# Altium schematic symbol library SN74.SchLib: 83 symbols
Pins are listed as number, name and electrical type; pins without a type are passive.

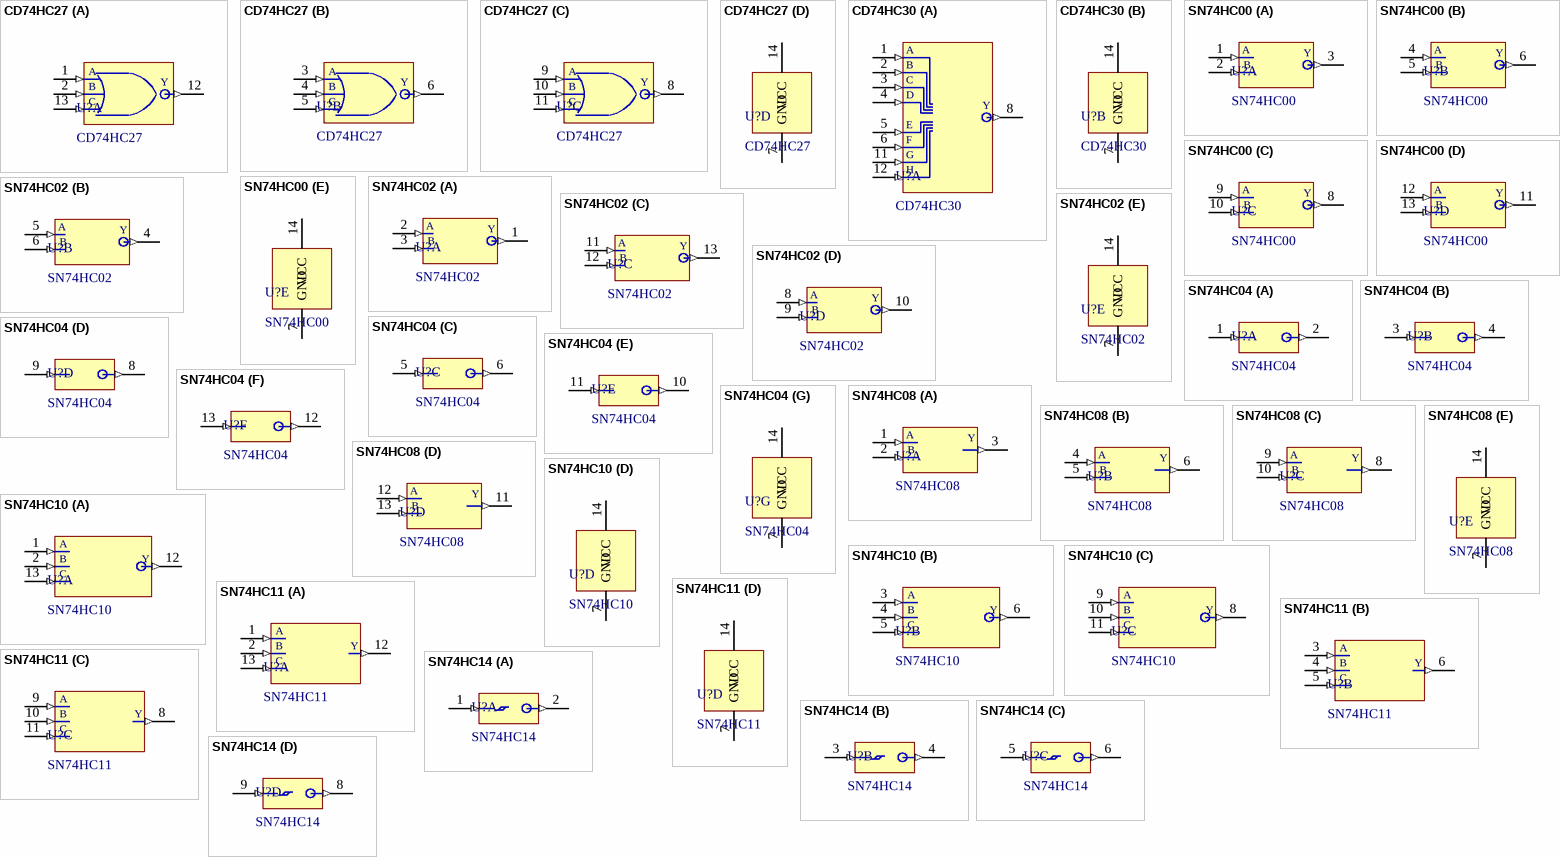
[diagram p0: symbols CD74HC27 to SN74HC14]

## CD74HC27
designator U?
Triple 3-Input NOR Gate
footprint CDIP14
footprint SOIC14
part A pins: 1 A (in), 2 B (in), 12 Y (out), 13 C (in)
part B pins: 3 A (in), 4 B (in), 5 C (in), 6 Y (out)
part C pins: 8 Y (out), 9 A (in), 10 B (in), 11 C (in)
part D pins: 7 GND (power), 14 VCC (power)

## CD74HC30
designator U?
8-Input NAND Gate
footprint CDIP14
footprint SOIC14
footprint TSSOP14
part A pins: 1 A (in), 2 B (in), 3 C (in), 4 D (in), 5 E (in), 6 F (in), 8 Y (out), 11 G (in), 12 H (in)
part B pins: 7 GND (power), 14 VCC (power)

## SN74HC00
designator U?
Quadruple 2-Input Positive-NAND Gates
footprint CDIP14
footprint SOIC14
footprint TSSOP14
part A pins: 1 A (in), 2 B (in), 3 Y (out)
part B pins: 4 A (in), 5 B (in), 6 Y (out)
part C pins: 8 Y (out), 9 A (in), 10 B (in)
part D pins: 11 Y (out), 12 A (in), 13 B (in)
part E pins: 7 GND (power), 14 VCC (power)

## SN74HC02
designator U?
Quadruple 2-Input Positive-NOR Gates
footprint CDIP14
footprint SOIC14
footprint TSSOP14
part A pins: 1 Y (out), 2 A (in), 3 B (in)
part B pins: 4 Y (out), 5 A (in), 6 B (in)
part C pins: 11 A (in), 12 B (in), 13 Y (out)
part D pins: 8 A (in), 9 B (in), 10 Y (out)
part E pins: 7 GND (power), 14 VCC (power)

## SN74HC04
designator U?
Hex Inverters
footprint CDIP14
footprint SOIC14
footprint TSSOP14
part A pins: 1 A (in), 2 Y (out)
part B pins: 3 A (in), 4 Y (out)
part C pins: 5 A (in), 6 Y (out)
part D pins: 8 Y (out), 9 A (in)
part E pins: 10 Y (out), 11 A (in)
part F pins: 12 Y (out), 13 A (in)
part G pins: 7 GND (power), 14 VCC (power)

## SN74HC08
designator U?
Quadruple 2-Input Positive-AND Gates
footprint CDIP14
footprint SOIC14
footprint TSSOP14
part A pins: 1 A (in), 2 B (in), 3 Y (out)
part B pins: 4 A (in), 5 B (in), 6 Y (out)
part C pins: 8 Y (out), 9 A (in), 10 B (in)
part D pins: 11 Y (out), 12 A (in), 13 B (in)
part E pins: 7 GND (power), 14 VCC (power)

## SN74HC10
designator U?
Triple 3-Input Positive-NAND Gates
footprint CDIP14
footprint SOIC14
footprint TSSOP14
part A pins: 1 A (in), 2 B (in), 12 Y (out), 13 C (in)
part B pins: 3 A (in), 4 B (in), 5 C (in), 6 Y (out)
part C pins: 8 Y (out), 9 A (in), 10 B (in), 11 C (in)
part D pins: 7 GND (power), 14 VCC (power)

## SN74HC11
designator U?
Triple 3-Input Positive-AND Gates
footprint CDIP14
footprint SOIC14
footprint TSSOP14
part A pins: 1 A (in), 2 B (in), 12 Y (out), 13 C (in)
part B pins: 3 A (in), 4 B (in), 5 C (in), 6 Y (out)
part C pins: 8 Y (out), 9 A (in), 10 B (in), 11 C (in)
part D pins: 7 GND (power), 14 VCC (power)

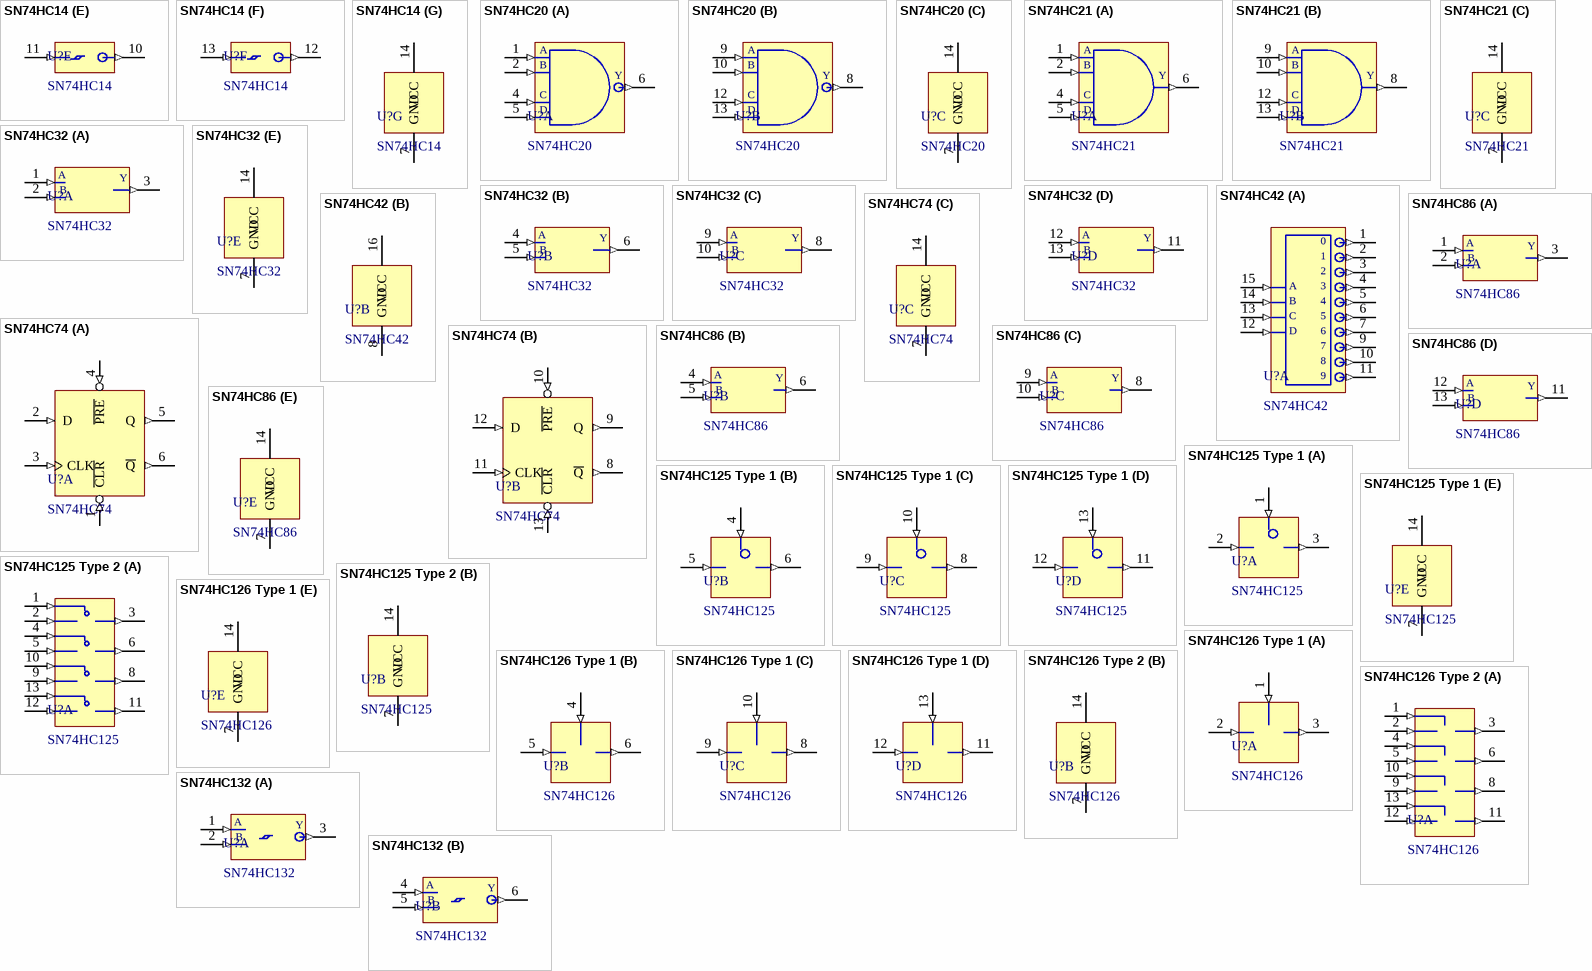
[diagram p1: symbols SN74HC14 to SN74HC132]

## SN74HC14
designator U?
Hex Schmitt-Trigger Inverters
footprint CDIP14
footprint SOIC14
footprint TSSOP14
part A pins: 1 A (in), 2 Y (out)
part B pins: 3 A (in), 4 Y (out)
part C pins: 5 A (in), 6 Y (out)
part D pins: 8 Y (out), 9 A (in)
part E pins: 10 Y (out), 11 A (in)
part F pins: 12 Y (out), 13 A (in)
part G pins: 7 GND (power), 14 VCC (power)

## SN74HC20
designator U?
Dual 4-Input Positive-NAND Gates
footprint CDIP14
footprint SOIC14
footprint TSSOP14
part A pins: 1 A (in), 2 A (in), 4 C (in), 5 D (in), 6 Y (out)
part B pins: 8 Y (out), 9 A (in), 10 A (in), 12 C (in), 13 D (in)
part C pins: 7 GND (power), 14 VCC (power)
part A text: B
part B text: B

## SN74HC21
designator U?
Dual 4-Input Positive-AND Gates
footprint CDIP14
footprint SOIC14
footprint TSSOP14
part A pins: 1 A (in), 2 A (in), 4 C (in), 5 D (in), 6 Y (out)
part B pins: 8 Y (out), 9 A (in), 10 A (in), 12 C (in), 13 D (in)
part C pins: 7 GND (power), 14 VCC (power)
part A text: B
part B text: B

## SN74HC32
designator U?
Quadruple 2-Input Positive-OR Gates
footprint CDIP14
footprint SOIC14
footprint TSSOP14
part A pins: 1 A (in), 2 B (in), 3 Y (out)
part B pins: 4 A (in), 5 B (in), 6 Y (out)
part C pins: 8 Y (out), 9 A (in), 10 B (in)
part D pins: 11 Y (out), 12 A (in), 13 B (in)
part E pins: 7 GND (power), 14 VCC (power)

## SN74HC42
designator U?
4-Lines to 10-Lines Decoder
footprint PDIP16
footprint SOIC16
part A pins: 1 0 (out), 2 1 (out), 3 2 (out), 4 3 (out), 5 4 (out), 6 5 (out), 7 6 (out), 9 7 (out), 10 8 (out), 11 9 (out), 12 D (in), 13 C (in), 14 B (in), 15 A (in)
part B pins: 8 GND (power), 16 VCC (power)

## SN74HC74
designator U?
Dual D-Type Positive-Edge-Triggered Flip-Flops With Clear and Preset
footprint CDIP14
footprint SOIC14
footprint TSSOP14
part A pins: 1 ~{CLR} (in), 2 D (in), 3 CLK (in), 4 ~{PRE} (in), 5 Q (out), 6 ~{Q} (out)
part B pins: 8 ~{Q} (out), 9 Q (out), 10 ~{PRE} (in), 11 CLK (in), 12 D (in), 13 ~{CLR} (in)
part C pins: 7 GND (power), 14 VCC (power)

## SN74HC86
designator U?
Quadruple 2-Input Exclusive-OR Gates
footprint CDIP14
footprint SOIC14
footprint TSSOP14
part A pins: 1 A (in), 2 B (in), 3 Y (out)
part B pins: 4 A (in), 5 B (in), 6 Y (out)
part C pins: 8 Y (out), 9 A (in), 10 B (in)
part D pins: 11 Y (out), 12 A (in), 13 B (in)
part E pins: 7 GND (power), 14 VCC (power)

## SN74HC125 Type 1
designator U?, comment SN74HC125
Quadruple Bus Buffer Gates With 3-State Outputs
footprint CDIP14
footprint SOIC14
footprint TSSOP14
part A pins: 1 ~{OE} (in), 2 A (in), 3 Y (out)
part B pins: 4 ~{OE} (in), 5 A (in), 6 Y (out)
part C pins: 8 Y (out), 9 A (in), 10 ~{OE} (in)
part D pins: 11 Y (out), 12 A (in), 13 ~{OE} (in)
part E pins: 7 GND (power), 14 VCC (power)

## SN74HC125 Type 2
designator U?, comment SN74HC125
Quadruple Bus Buffer Gates With 3-State Outputs
footprint CDIP14
footprint SOIC14
footprint TSSOP14
part A pins: 1 ~{OE} (in), 2 A (in), 3 Y (out), 4 ~{OE} (in), 5 A (in), 6 Y (out), 8 Y (out), 9 A (in), 10 ~{OE} (in), 11 Y (out), 12 A (in), 13 ~{OE} (in)
part B pins: 7 GND (power), 14 VCC (power)

## SN74HC126 Type 1
designator U?, comment SN74HC126
Quadruple Bus Buffer Gates With 3-State Outputs
footprint CDIP14
footprint SOIC14
footprint TSSOP14
part A pins: 1 ~{OE} (in), 2 A (in), 3 Y (out)
part B pins: 4 ~{OE} (in), 5 A (in), 6 Y (out)
part C pins: 8 Y (out), 9 A (in), 10 ~{OE} (in)
part D pins: 11 Y (out), 12 A (in), 13 ~{OE} (in)
part E pins: 7 GND (power), 14 VCC (power)

## SN74HC126 Type 2
designator U?, comment SN74HC126
Quadruple Bus Buffer Gates With 3-State Outputs
footprint CDIP14
footprint SOIC14
footprint TSSOP14
part A pins: 1 ~{OE} (in), 2 A (in), 3 Y (out), 4 ~{OE} (in), 5 A (in), 6 Y (out), 8 Y (out), 9 A (in), 10 ~{OE} (in), 11 Y (out), 12 A (in), 13 ~{OE} (in)
part B pins: 7 GND (power), 14 VCC (power)

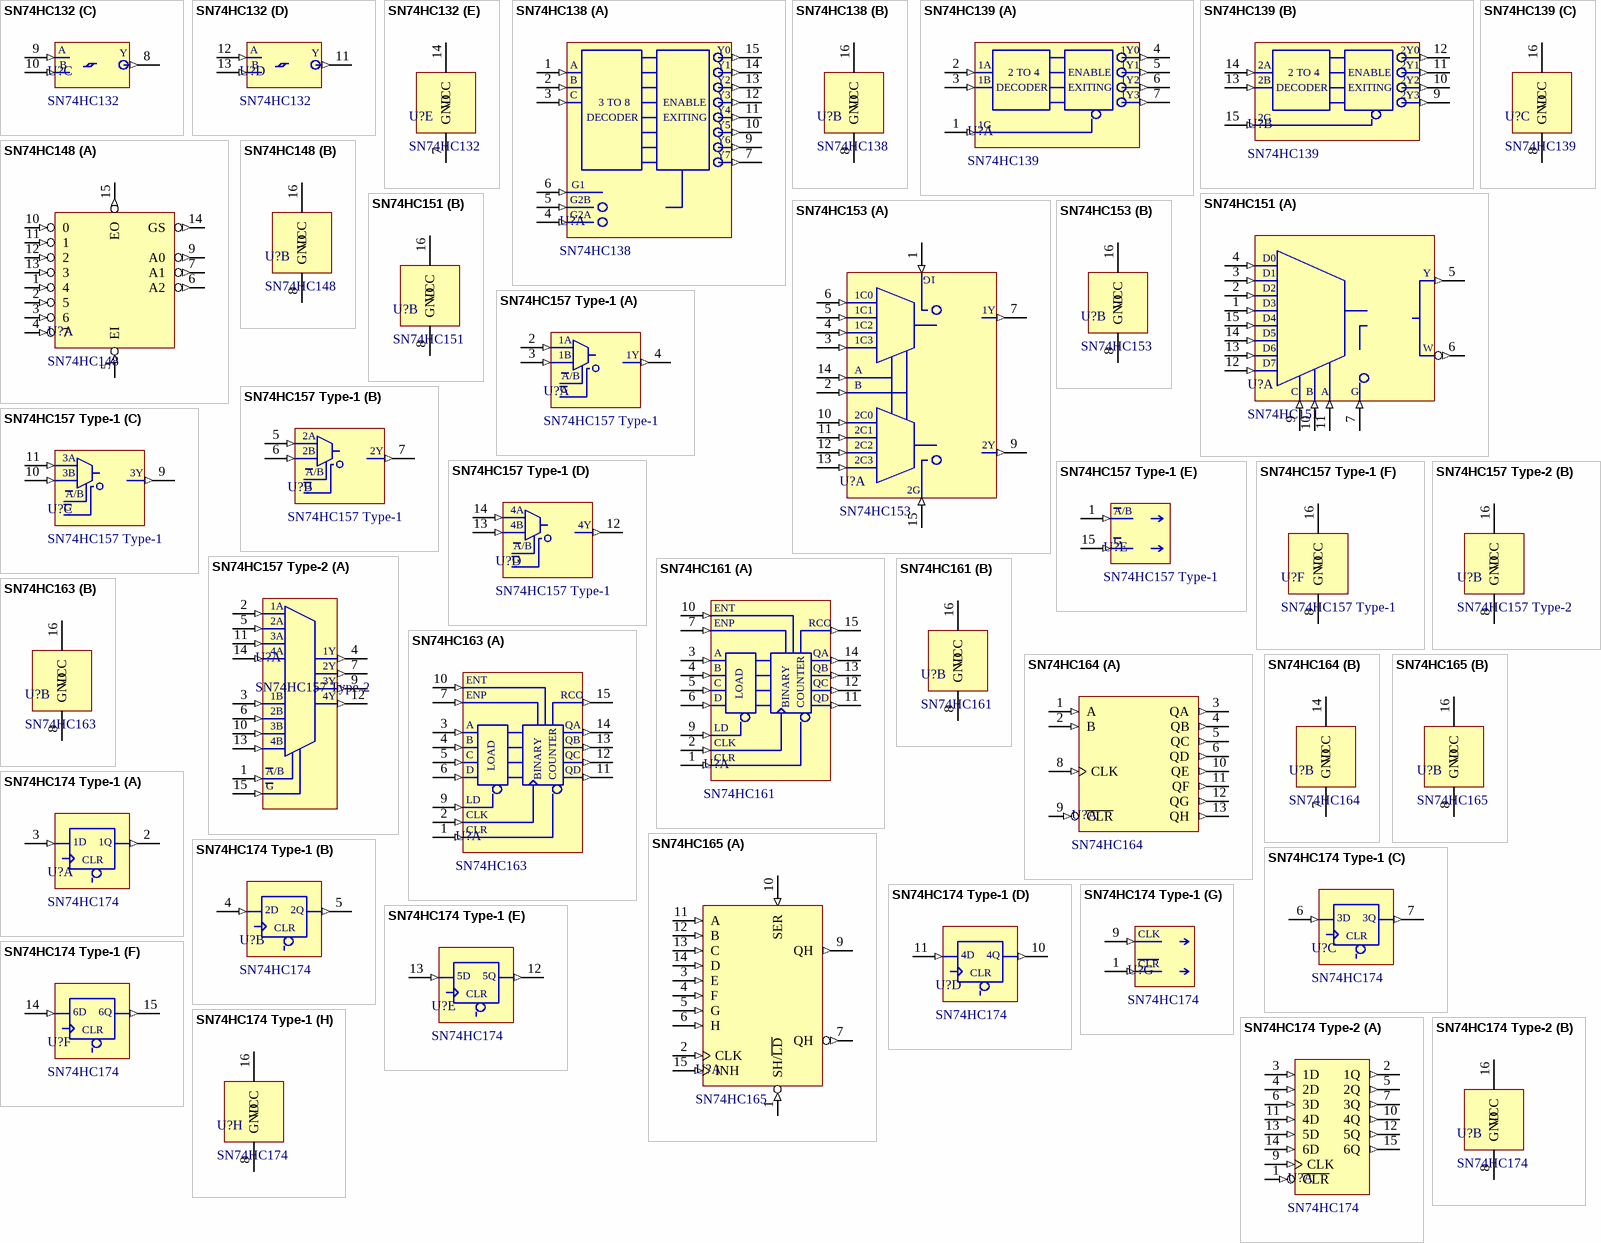
[diagram p2: symbols SN74HC132 to SN74HC174 Type-2]

## SN74HC132
designator U?
Quadruple Positive-NAND Gates With Schmitt-Trigger Inputs
footprint CDIP14
footprint SOIC14
footprint TSSOP14
part A pins: 1 A (in), 2 B (in), 3 Y (out)
part B pins: 4 A (in), 5 B (in), 6 Y (out)
part C pins: 8 Y (out), 9 A (in), 10 B (in)
part D pins: 11 Y (out), 12 A (in), 13 B (in)
part E pins: 7 GND (power), 14 VCC (power)

## SN74HC138
designator U?
3-Line To 8-Line Decoders/Demultiplexers
footprint PDIP16
footprint SOIC16
footprint TSSOP16
part A pins: 1 A (in), 2 B (in), 3 C (in), 4 G2A (in), 5 G2B (in), 6 G1 (in), 7 Y7 (out), 9 Y6 (out), 10 Y5 (out), 11 Y4 (out), 12 Y3 (out), 13 Y2 (out), 14 Y1 (out), 15 Y0 (out)
part B pins: 8 GND (power), 16 VCC (power)
part A text: 3 TO 8; ENABLE; DECODER; EXITING

## SN74HC139
designator U?
Dual 2-Line to 4-Line Decoders/Demultiplexers
footprint PDIP16
footprint SOIC16
footprint TSSOP16
part A pins: 1 1G (in), 2 1A (in), 3 1B (in), 4 1Y0 (out), 5 1Y1 (out), 6 1Y2 (out), 7 1Y3 (out)
part B pins: 9 2Y3 (out), 10 2Y2 (out), 11 2Y1 (out), 12 2Y0 (out), 13 2B (in), 14 2A (in), 15 2G (in)
part C pins: 8 GND (power), 16 VCC (power)
part A text: 2 TO 4; ENABLE; DECODER; EXITING
part B text: 2 TO 4; ENABLE; DECODER; EXITING

## SN74HC148
designator U?
8-Line To 3-Line Priority Encoders
footprint PDIP16
footprint SOIC16
part A pins: 1 4 (in), 2 5 (in), 3 6 (in), 4 7 (in), 5 EI (in), 6 A2 (out), 7 A1 (out), 9 A0 (out), 10 0 (in), 11 1 (in), 12 2 (in), 13 3 (in), 14 GS (out), 15 EO (out)
part B pins: 8 GND (power), 16 VCC (power)

## SN74HC151
designator U?
8-Line To 1-Line Data Selectors/Mutiplexers
footprint PDIP16
footprint SOIC16
footprint TSSOP16
part A pins: 1 D3 (in), 2 D2 (in), 3 D1 (in), 4 D0 (in), 5 Y (out), 6 W (out), 7 G (in), 9 C (in), 10 B (in), 11 A (in), 12 D7 (in), 13 D6 (in), 14 D5 (in), 15 D4 (in)
part B pins: 8 GND (power), 16 VCC (power)

## SN74HC153
designator U?
Dual 4-Line To 1-Line Data Selectors/Mutiplexers
footprint PDIP16
footprint SOIC16
footprint TSSOP16
part A pins: 1 1G (in), 2 B (in), 3 1C3 (in), 4 1C2 (in), 5 1C1 (in), 6 1C0 (in), 7 1Y (out), 9 2Y (out), 10 2C0 (in), 11 2C1 (in), 12 2C2 (in), 13 2C3 (in), 14 A (in), 15 2G (in)
part B pins: 8 GND (power), 16 VCC (power)

## SN74HC157 Type-1
designator U?
Quadruple 2-Line To 1-Line Data Selectors/Mutiplexers
footprint PDIP16
footprint SOIC16
footprint TSSOP16
part A pins: 2 1A (in), 3 1B (in), 4 1Y (out)
part B pins: 5 2A (in), 6 2B (in), 7 2Y (out)
part C pins: 9 3Y (out), 10 3B (in), 11 3A (in)
part D pins: 12 4Y (out), 13 4B (in), 14 4A (in)
part E pins: 1 A/B (in), 15 G (in)
part F pins: 8 GND (power), 16 VCC (power)

## SN74HC157 Type-2
designator U?
Quadruple 2-Line To 1-Line Data Selectors/Mutiplexers
footprint PDIP16
footprint SOIC16
footprint TSSOP16
part A pins: 1 A/B (in), 2 1A (in), 3 1B (in), 4 1Y (out), 5 2A (in), 6 2B (in), 7 2Y (out), 9 3Y (out), 10 3B (in), 11 3A (in), 12 4Y (out), 13 4B (in), 14 4A (in), 15 G (in)
part B pins: 8 GND (power), 16 VCC (power)

## SN74HC161
designator U?
4-Bit Synchronous Binary Counters
footprint PDIP16
footprint SOIC16
footprint TSSOP16
part A pins: 1 CLR (in), 2 CLK (in), 3 A (in), 4 B (in), 5 C (in), 6 D (in), 7 ENP (in), 9 LOAD (in), 10 ENT (in), 11 QD (out), 12 QC (out), 13 QB (out), 14 QA (out), 15 RCO (out)
part B pins: 8 GND (power), 16 VCC (power)
part A text: BINARY; COUNTER; LD

## SN74HC163
designator U?
4-Bit Synchronous Binary Counters
footprint PDIP16
footprint SOIC16
footprint TSSOP16
part A pins: 1 CLR (in), 2 CLK (in), 3 A (in), 4 B (in), 5 C (in), 6 D (in), 7 ENP (in), 9 LOAD (in), 10 ENT (in), 11 QD (out), 12 QC (out), 13 QB (out), 14 QA (out), 15 RCO (out)
part B pins: 8 GND (power), 16 VCC (power)
part A text: BINARY; COUNTER; LD

## SN74HC164
designator U?
8-Bit Parallel-Out Serial Shift Registers
footprint CDIP14
footprint SOIC14
footprint TSSOP14
part A pins: 1 A (in), 2 B (in), 3 QA (out), 4 QB (out), 5 QC (out), 6 QD (out), 8 CLK (in), 9 ~{CLR} (in), 10 QE (out), 11 QF (out), 12 QG (out), 13 QH (out)
part B pins: 7 GND (power), 14 VCC (power)

## SN74HC165
designator U?
8-Bit Parallel-Load Shift Registers
footprint PDIP16
footprint SOIC16
footprint TSSOP16
part A pins: 1 SH/~{LD} (in), 2 CLK (in), 3 E (in), 4 F (in), 5 G (in), 6 H (in), 7 QH (out), 9 QH (out), 10 SER (in), 11 A (in), 12 B (in), 13 C (in), 14 D (in), 15 INH (in)
part B pins: 8 GND (power), 16 VCC (power)

## SN74HC174 Type-1
designator U?, comment SN74HC174
Hex D-Type Flip-Flop With Clear
footprint PDIP16
footprint SOIC16
footprint TSSOP16
part A pins: 2 1Q (out), 3 1D (in)
part B pins: 4 2D (in), 5 2Q (out)
part C pins: 6 3D (in), 7 3Q (out)
part D pins: 10 4Q (out), 11 4D (in)
part E pins: 12 5Q (out), 13 5D (in)
part F pins: 14 6D (in), 15 6Q (out)
part G pins: 1 ~{CLR} (in), 9 CLK (in)
part H pins: 8 GND (power), 16 VCC (power)
part A text: CLR
part B text: CLR
part C text: CLR
part D text: CLR
part E text: CLR
part F text: CLR
part G text: CLR

## SN74HC174 Type-2
designator U?, comment SN74HC174
Hex D-Type Flip-Flop With Clear
footprint PDIP16
footprint SOIC16
footprint TSSOP16
part A pins: 1 ~{CLR} (in), 2 1Q (out), 3 1D (in), 4 2D (in), 5 2Q (out), 6 3D (in), 7 3Q (out), 9 CLK (in), 10 4Q (out), 11 4D (in), 12 5Q (out), 13 5D (in), 14 6D (in), 15 6Q (out)
part B pins: 8 GND (power), 16 VCC (power)

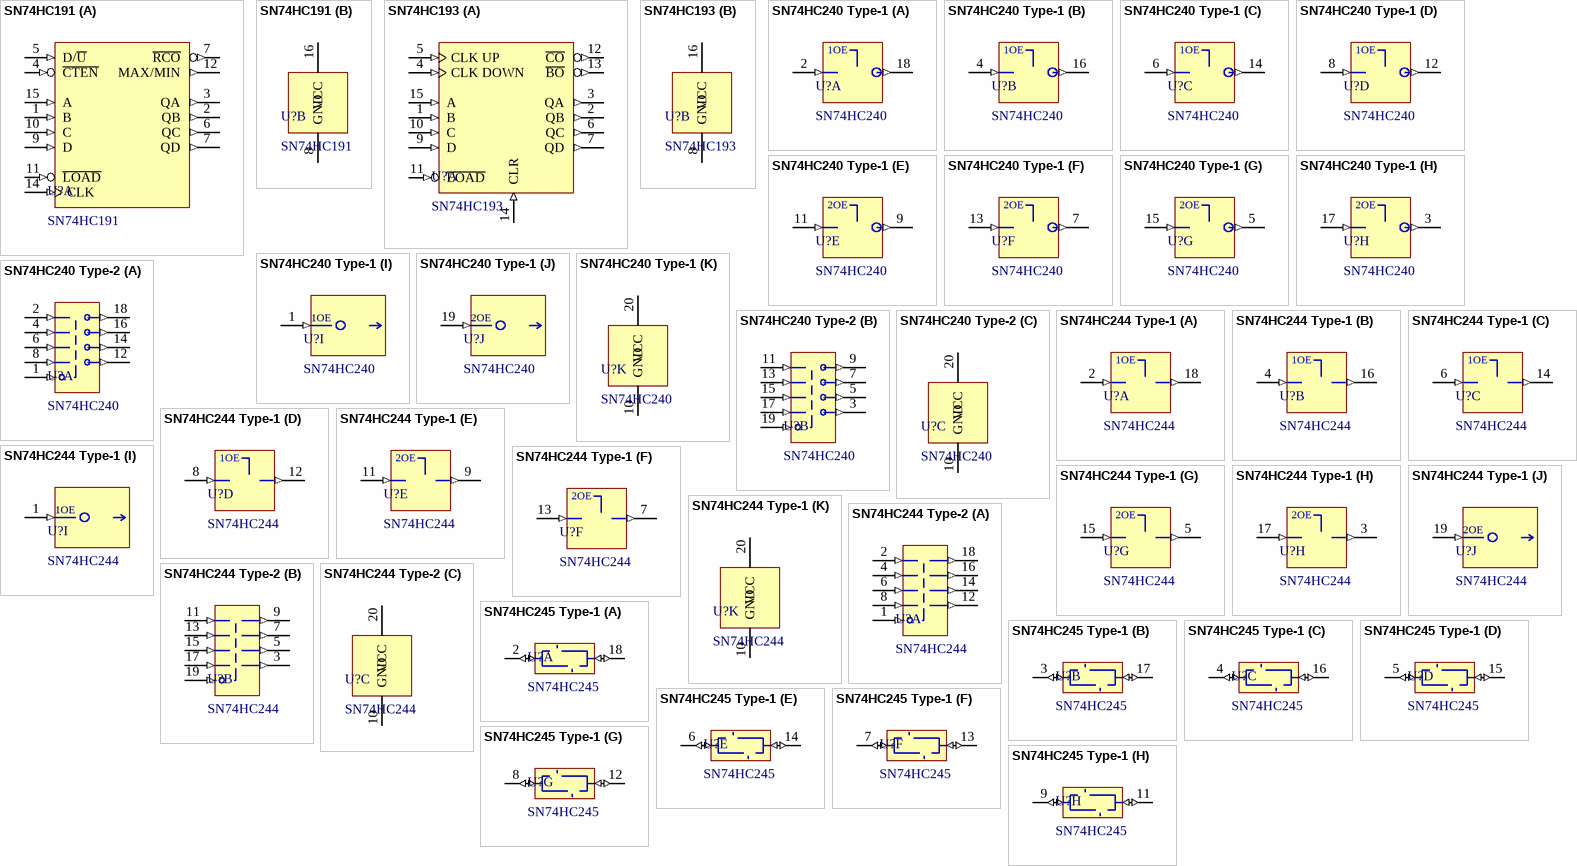
[diagram p3: symbols SN74HC191 to SN74HC245 Type-1]

## SN74HC191
designator U?
4-Bit Synchronous Up/Down Binary Counters
footprint PDIP16
footprint SOIC16
part A pins: 1 B (in), 2 QB (out), 3 QA (out), 4 ~{CTEN} (in), 5 D/~{U} (in), 6 QC (out), 7 ~{RCO} (out), 7 QD (out), 9 D (in), 10 C (in), 11 ~{LOAD} (in), 12 MAX/MIN (out), 14 CLK (in), 15 A (in)
part B pins: 8 GND (power), 16 VCC (power)

## SN74HC193
designator U?
4-Bit Synchronous Up/Down Counters - Dual Clock with Clear
footprint PDIP16
footprint SOIC16
footprint TSSOP16
part A pins: 1 B (in), 2 QB (out), 3 QA (out), 4 CLK DOWN (in), 5 CLK UP (in), 6 QC (out), 7 QD (out), 9 D (in), 10 C (in), 11 ~{LOAD} (in), 12 ~{CO} (out), 13 ~{BO} (out), 14 CLR (in), 15 A (in)
part B pins: 8 GND (power), 16 VCC (power)

## SN74HC240 Type-1
designator U?, comment SN74HC240
Octal Buffers and Line Inverter Drivers With 3-State Outputs
footprint PDIP20
footprint SOIC20
part A pins: 2 1A1 (in), 18 1Y1 (out)
part B pins: 4 1A2 (in), 16 1Y2 (out)
part C pins: 6 1A3 (in), 14 1Y3 (out)
part D pins: 8 1A4 (in), 12 1Y4 (out)
part E pins: 9 2Y1 (out), 11 2A1 (in)
part F pins: 7 2Y2 (out), 13 2A2 (in)
part G pins: 5 2Y3 (out), 15 2A3 (in)
part H pins: 3 2Y4 (out), 17 2A4 (in)
part I pins: 1 OE1 (in)
part J pins: 19 OE1 (in)
part K pins: 10 GND (power), 20 VCC (power)
part A text: 1OE
part B text: 1OE
part C text: 1OE
part D text: 1OE
part E text: 2OE
part F text: 2OE
part G text: 2OE
part H text: 2OE
part I text: 1OE
part J text: 2OE

## SN74HC240 Type-2
designator U?, comment SN74HC240
Octal Buffers and Line Inverter Drivers With 3-State Outputs
footprint PDIP20
footprint SOIC20
part A pins: 1 OE1 (in), 2 1A1 (in), 4 1A2 (in), 6 1A3 (in), 8 1A4 (in), 12 1Y4 (out), 14 1Y3 (out), 16 1Y2 (out), 18 1Y1 (out)
part B pins: 3 2Y4 (out), 5 2Y3 (out), 7 2Y2 (out), 9 2Y1 (out), 11 2A1 (in), 13 2A2 (in), 15 2A3 (in), 17 2A4 (in), 19 OE1 (in)
part C pins: 10 GND (power), 20 VCC (power)

## SN74HC244 Type-1
designator U?, comment SN74HC244
Octal Buffers and Line Drivers With 3-State Outputs
footprint PDIP20
footprint SOIC20
part A pins: 2 1A1 (in), 18 1Y1 (out)
part B pins: 4 1A2 (in), 16 1Y2 (out)
part C pins: 6 1A3 (in), 14 1Y3 (out)
part D pins: 8 1A4 (in), 12 1Y4 (out)
part E pins: 9 2Y1 (out), 11 2A1 (in)
part F pins: 7 2Y2 (out), 13 2A2 (in)
part G pins: 5 2Y3 (out), 15 2A3 (in)
part H pins: 3 2Y4 (out), 17 2A4 (in)
part I pins: 1 1~{OE} (in)
part J pins: 19 2~{OE} (in)
part K pins: 10 GND (power), 20 VCC (power)
part A text: 1OE
part B text: 1OE
part C text: 1OE
part D text: 1OE
part E text: 2OE
part F text: 2OE
part G text: 2OE
part H text: 2OE
part I text: 1OE
part J text: 2OE

## SN74HC244 Type-2
designator U?, comment SN74HC244
Octal Buffers and Line Drivers With 3-State Outputs
footprint PDIP20
footprint SOIC20
part A pins: 1 1~{OE} (in), 2 1A1 (in), 4 1A2 (in), 6 1A3 (in), 8 1A4 (in), 12 1Y4 (out), 14 1Y3 (out), 16 1Y2 (out), 18 1Y1 (out)
part B pins: 3 2Y4 (out), 5 2Y3 (out), 7 2Y2 (out), 9 2Y1 (out), 11 2A1 (in), 13 2A2 (in), 15 2A3 (in), 17 2A4 (in), 19 2~{OE} (in)
part C pins: 10 GND (power), 20 VCC (power)

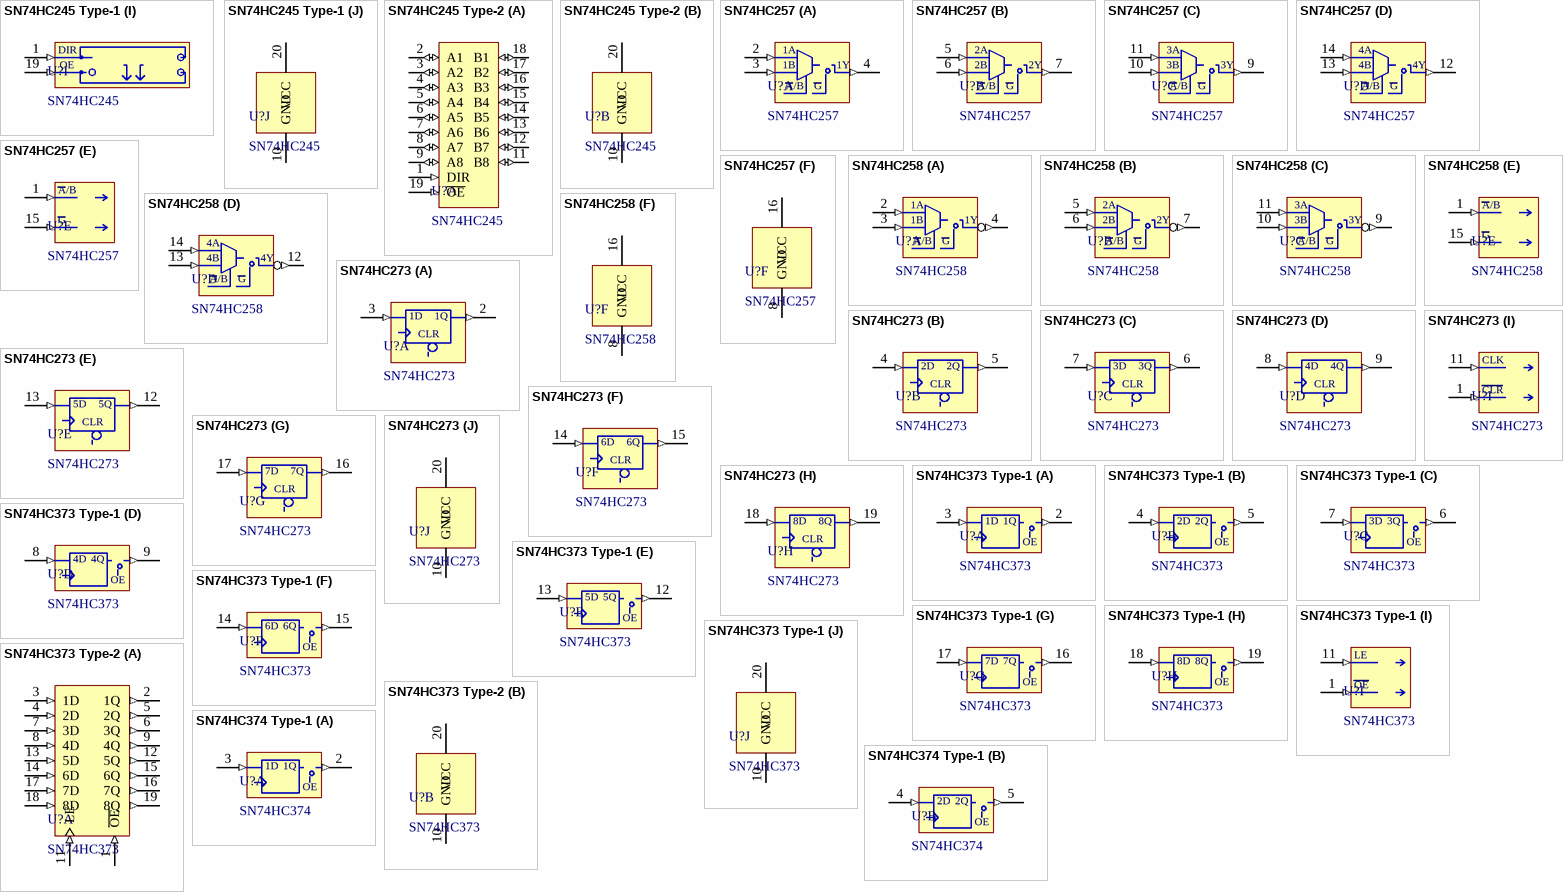
[diagram p4: symbols SN74HC245 Type-1 to SN74HC374 Type-1]

## SN74HC245 Type-1
designator U?, comment SN74HC245
Octal Bus Transceivers with 3-State Outputs
footprint PDIP20
footprint SOIC20
part A pins: 2 A1 (io), 18 B1 (io)
part B pins: 3 A2 (io), 17 B2 (io)
part C pins: 4 A3 (io), 16 B3 (io)
part D pins: 5 A4 (io), 15 B4 (io)
part E pins: 6 A5 (io), 14 B5 (io)
part F pins: 7 A6 (io), 13 B6 (io)
part G pins: 8 A7 (io), 12 B7 (io)
part H pins: 9 A8 (io), 11 B8 (io)
part I pins: 1 DIR (in), 19 ~{OE} (in)
part J pins: 10 GND (power), 20 VCC (power)
part I text: OE

## SN74HC245 Type-2
designator U?, comment SN74HC245
Octal Bus Transceivers with 3-State Outputs
footprint PDIP20
footprint SOIC20
part A pins: 1 DIR (in), 2 A1 (io), 3 A2 (io), 4 A3 (io), 5 A4 (io), 6 A5 (io), 7 A6 (io), 8 A7 (io), 9 A8 (io), 11 B8 (io), 12 B7 (io), 13 B6 (io), 14 B5 (io), 15 B4 (io), 16 B3 (io), 17 B2 (io), 18 B1 (io), 19 ~{OE} (in)
part B pins: 10 GND (power), 20 VCC (power)

## SN74HC257
designator U?
Quadruple 2-Line To 1-Line Data Selectors/Mutiplexers with 3-State Outputs
footprint PDIP16
footprint SOIC16
footprint TSSOP16
part A pins: 2 1A (in), 3 1B (in), 4 1Y (out)
part B pins: 5 2A (in), 6 2B (in), 7 2Y (out)
part C pins: 9 3Y (out), 10 3B (in), 11 3A (in)
part D pins: 12 4Y (out), 13 4B (in), 14 4A (in)
part E pins: 1 ~{A}/B (in), 15 ~{G} (in)
part F pins: 8 GND (power), 16 VCC (power)
part A text: A/B; G
part B text: A/B; G
part C text: A/B; G
part D text: A/B; G
part E text: A/B; G

## SN74HC258
designator U?
Quadruple 2-Line To 1-Line Data Selectors/Mutiplexers with 3-State Outputs
footprint PDIP16
footprint SOIC16
part A pins: 2 1A (in), 3 1B (in), 4 1Y (out)
part B pins: 5 2A (in), 6 2B (in), 7 2Y (out)
part C pins: 9 3Y (out), 10 3B (in), 11 3A (in)
part D pins: 12 4Y (out), 13 4B (in), 14 4A (in)
part E pins: 1 ~{A}/B (in), 15 ~{G} (in)
part F pins: 8 GND (power), 16 VCC (power)
part A text: A/B; G
part B text: A/B; G
part C text: A/B; G
part D text: A/B; G
part E text: A/B; G

## SN74HC273
designator U?
Octal D-Type Flip-Flops with Clear
footprint PDIP20
footprint SOIC20
part A pins: 2 1Q (out), 3 1D (in)
part B pins: 4 2D (in), 5 2Q (out)
part C pins: 6 3Q (out), 7 3D (in)
part D pins: 8 4D (in), 9 4Q (out)
part E pins: 12 5Q (out), 13 5D (in)
part F pins: 14 6D (in), 15 6Q (out)
part G pins: 16 7Q (out), 17 7D (in)
part H pins: 18 8D (in), 19 8Q (out)
part I pins: 1 ~{CLR} (in), 11 CLK (in)
part J pins: 10 GND (power), 20 VCC (power)
part A text: CLR
part B text: CLR
part C text: CLR
part D text: CLR
part E text: CLR
part F text: CLR
part G text: CLR
part H text: CLR
part I text: CLR

## SN74HC373 Type-1
designator U?, comment SN74HC373
Octal Transparent D-Type Latches with 3-State Outputs
footprint PDIP20
footprint SOIC20
part A pins: 2 1Q (out), 3 1D (in)
part B pins: 4 2D (in), 5 2Q (out)
part C pins: 6 3Q (out), 7 3D (in)
part D pins: 8 4D (in), 9 4Q (out)
part E pins: 12 5Q (out), 13 5D (in)
part F pins: 14 6D (in), 15 6Q (out)
part G pins: 16 7Q (out), 17 7D (in)
part H pins: 18 8D (in), 19 8Q (out)
part I pins: 1 ~{OE} (in), 11 LE (in)
part J pins: 10 GND (power), 20 VCC (power)
part A text: OE
part B text: OE
part C text: OE
part D text: OE
part E text: OE
part F text: OE
part G text: OE
part H text: OE
part I text: OE

## SN74HC373 Type-2
designator U?, comment SN74HC373
Octal Transparent D-Type Latches with 3-State Outputs
footprint PDIP20
footprint SOIC20
part A pins: 1 ~{OE} (in), 2 1Q (out), 3 1D (in), 4 2D (in), 5 2Q (out), 6 3Q (out), 7 3D (in), 8 4D (in), 9 4Q (out), 11 LE (in), 12 5Q (out), 13 5D (in), 14 6D (in), 15 6Q (out), 16 7Q (out), 17 7D (in), 18 8D (in), 19 8Q (out)
part B pins: 10 GND (power), 20 VCC (power)

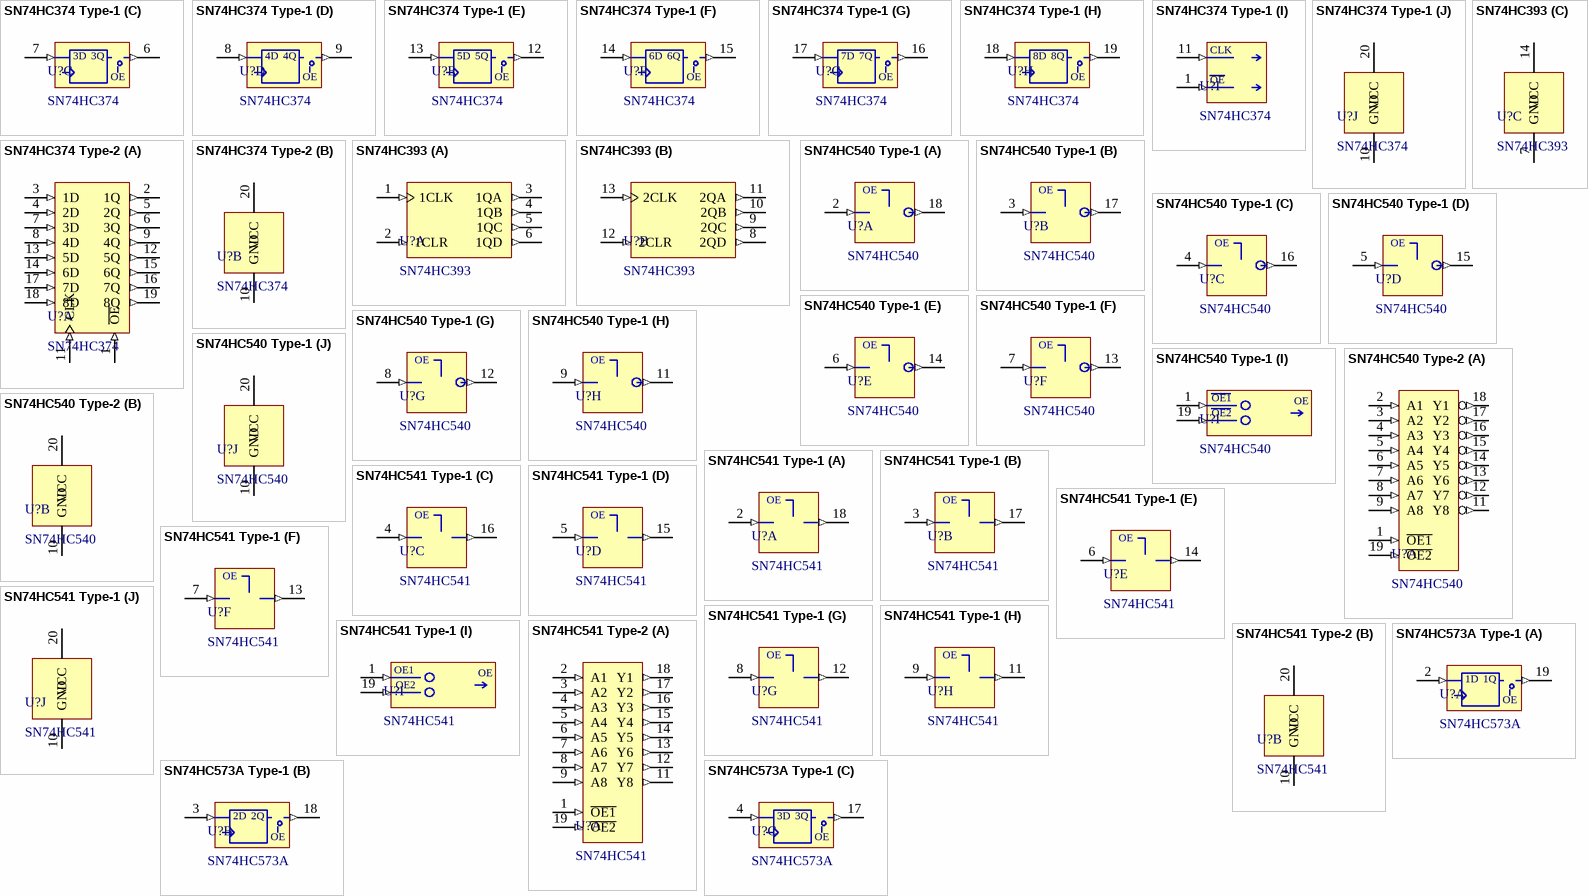
[diagram p5: symbols SN74HC374 Type-1 to SN74HC573A Type-1]

## SN74HC374 Type-1
designator U?, comment SN74HC374
Octal Edge-Triggered D-Type Flip-Flops With 3-State Outputs
footprint PDIP20
footprint SOIC20
part A pins: 2 1Q (out), 3 1D (in)
part B pins: 4 2D (in), 5 2Q (out)
part C pins: 6 3Q (out), 7 3D (in)
part D pins: 8 4D (in), 9 4Q (out)
part E pins: 12 5Q (out), 13 5D (in)
part F pins: 14 6D (in), 15 6Q (out)
part G pins: 16 7Q (out), 17 7D (in)
part H pins: 18 8D (in), 19 8Q (out)
part I pins: 1 ~{OE} (in), 11 CLK (in)
part J pins: 10 GND (power), 20 VCC (power)
part A text: OE
part B text: OE
part C text: OE
part D text: OE
part E text: OE
part F text: OE
part G text: OE
part H text: OE
part I text: OE

## SN74HC374 Type-2
designator U?, comment SN74HC374
Octal Edge-Triggered D-Type Flip-Flops With 3-State Outputs
footprint PDIP20
footprint SOIC20
part A pins: 1 ~{OE} (in), 2 1Q (out), 3 1D (in), 4 2D (in), 5 2Q (out), 6 3Q (out), 7 3D (in), 8 4D (in), 9 4Q (out), 11 CLK (in), 12 5Q (out), 13 5D (in), 14 6D (in), 15 6Q (out), 16 7Q (out), 17 7D (in), 18 8D (in), 19 8Q (out)
part B pins: 10 GND (power), 20 VCC (power)

## SN74HC393
designator U?
Dual 4-Bit Binary Counters
footprint CDIP14
footprint SOIC14
footprint TSSOP14
part A pins: 1 1CLK (in), 2 1CLR (in), 3 1QA (out), 4 1QB (out), 5 1QC (out), 6 1QD (out)
part B pins: 8 2QD (out), 9 2QC (out), 10 2QB (out), 11 2QA (out), 12 2CLR (in), 13 2CLK (in)
part C pins: 7 GND (power), 14 VCC (power)

## SN74HC540 Type-1
designator U?, comment SN74HC540
Octal Buffers and Line Drivers With 3-State Outputs
footprint PDIP20
footprint SOIC20
part A pins: 2 A1 (in), 18 Y1 (out)
part B pins: 3 A2 (in), 17 Y2 (out)
part C pins: 4 A3 (in), 16 Y3 (out)
part D pins: 5 A4 (in), 15 Y4 (out)
part E pins: 6 A5 (in), 14 Y5 (out)
part F pins: 7 A6 (in), 13 Y6 (out)
part G pins: 8 A7 (in), 12 Y7 (out)
part H pins: 9 A8 (in), 11 Y8 (out)
part I pins: 1 OE1 (in), 19 OE2 (in)
part J pins: 10 GND (power), 20 VCC (power)
part A text: OE
part B text: OE
part C text: OE
part D text: OE
part E text: OE
part F text: OE
part G text: OE
part H text: OE
part I text: OE

## SN74HC540 Type-2
designator U?, comment SN74HC540
Octal Buffers and Line Drivers With 3-State Outputs
footprint PDIP20
footprint SOIC20
part A pins: 1 ~{OE1} (in), 2 A1 (in), 3 A2 (in), 4 A3 (in), 5 A4 (in), 6 A5 (in), 7 A6 (in), 8 A7 (in), 9 A8 (in), 11 Y8 (out), 12 Y7 (out), 13 Y6 (out), 14 Y5 (out), 15 Y4 (out), 16 Y3 (out), 17 Y2 (out), 18 Y1 (out), 19 ~{OE2} (in)
part B pins: 10 GND (power), 20 VCC (power)

## SN74HC541 Type-1
designator U?, comment SN74HC541
Octal Buffers and Line Drivers With 3-State Outputs
footprint PDIP20
footprint SOIC20
part A pins: 2 A1 (in), 18 Y1 (out)
part B pins: 3 A2 (in), 17 Y2 (out)
part C pins: 4 A3 (in), 16 Y3 (out)
part D pins: 5 A4 (in), 15 Y4 (out)
part E pins: 6 A5 (in), 14 Y5 (out)
part F pins: 7 A6 (in), 13 Y6 (out)
part G pins: 8 A7 (in), 12 Y7 (out)
part H pins: 9 A8 (in), 11 Y8 (out)
part I pins: 1 OE1 (in), 19 OE2 (in)
part J pins: 10 GND (power), 20 VCC (power)
part A text: OE
part B text: OE
part C text: OE
part D text: OE
part E text: OE
part F text: OE
part G text: OE
part H text: OE
part I text: OE

## SN74HC541 Type-2
designator U?, comment SN74HC541
Octal Buffers and Line Drivers With 3-State Outputs
footprint PDIP20
footprint SOIC20
part A pins: 1 ~{OE1} (in), 2 A1 (in), 3 A2 (in), 4 A3 (in), 5 A4 (in), 6 A5 (in), 7 A6 (in), 8 A7 (in), 9 A8 (in), 11 Y8 (out), 12 Y7 (out), 13 Y6 (out), 14 Y5 (out), 15 Y4 (out), 16 Y3 (out), 17 Y2 (out), 18 Y1 (out), 19 ~{OE2} (in)
part B pins: 10 GND (power), 20 VCC (power)

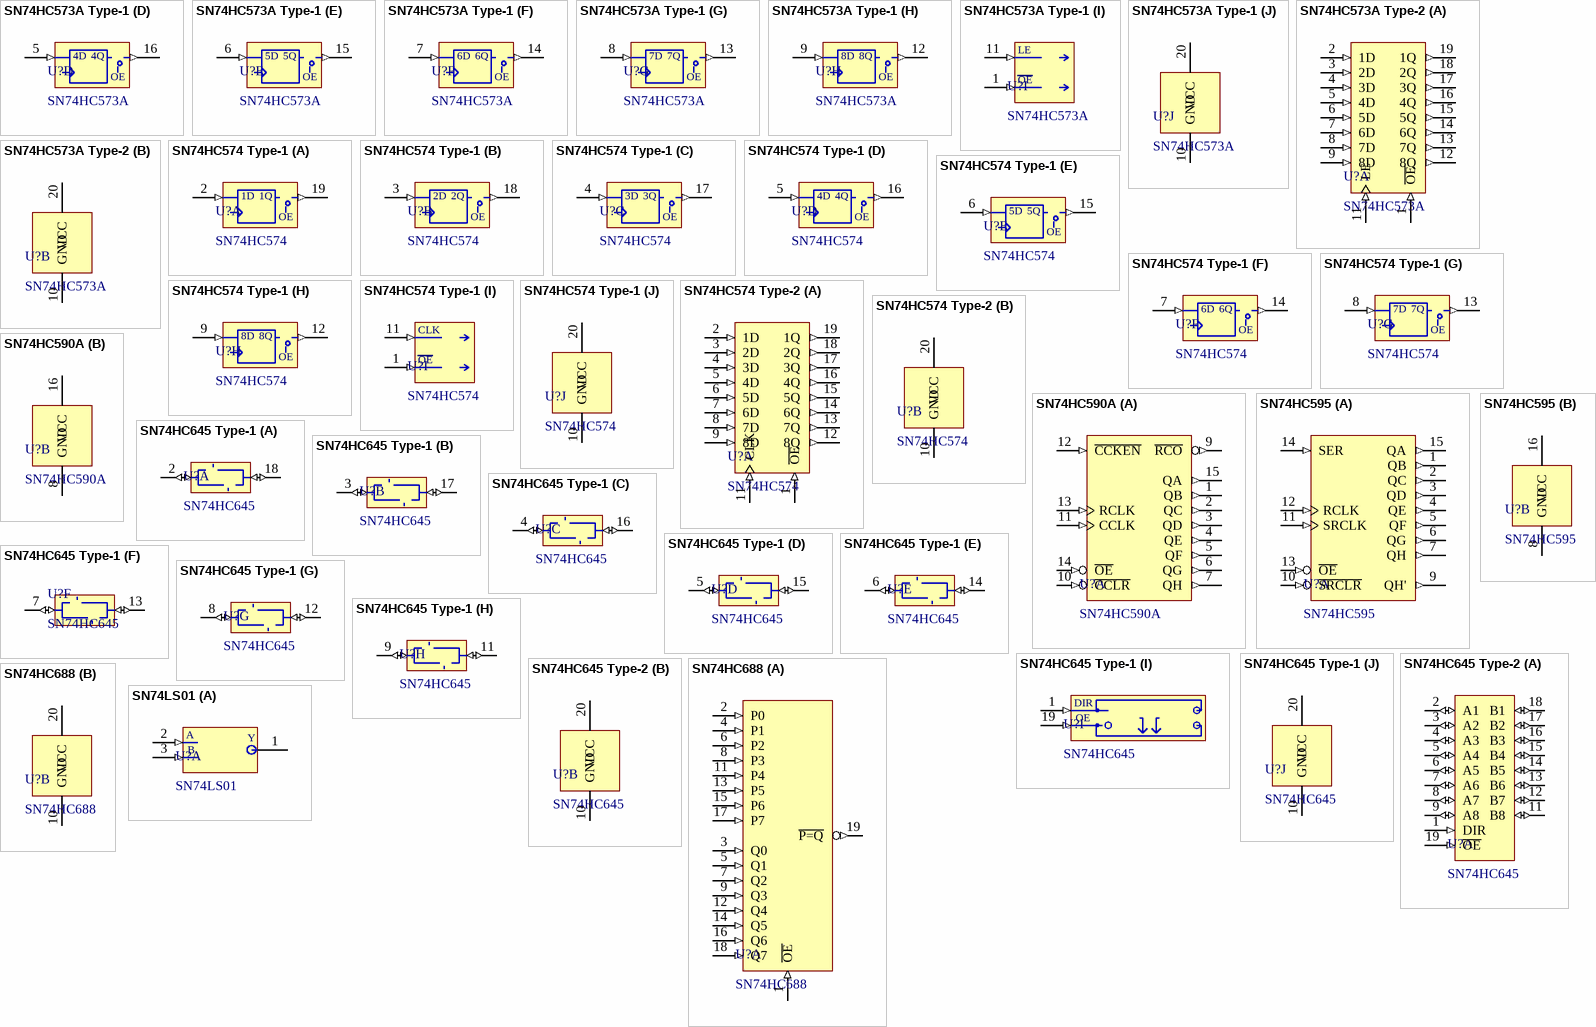
[diagram p6: symbols SN74HC573A Type-1 to SN74LS01]

## SN74HC573A Type-1
designator U?, comment SN74HC573A
Octal Transparent D-Type Latches with 3-State Outputs
footprint PDIP20
footprint SOIC20
part A pins: 2 1D (in), 19 1Q (out)
part B pins: 3 2D (in), 18 2Q (out)
part C pins: 4 3D (in), 17 3Q (out)
part D pins: 5 4D (in), 16 4Q (out)
part E pins: 6 5D (in), 15 5Q (out)
part F pins: 7 6D (in), 14 6Q (out)
part G pins: 8 7D (in), 13 7Q (out)
part H pins: 9 8D (in), 12 8Q (out)
part I pins: 1 ~{OE} (in), 11 LE (in)
part J pins: 10 GND (power), 20 VCC (power)
part A text: OE
part B text: OE
part C text: OE
part D text: OE
part E text: OE
part F text: OE
part G text: OE
part H text: OE
part I text: OE

## SN74HC573A Type-2
designator U?, comment SN74HC573A
Octal Transparent D-Type Latches with 3-State Outputs
footprint PDIP20
footprint SOIC20
part A pins: 1 ~{OE} (in), 2 1D (in), 3 2D (in), 4 3D (in), 5 4D (in), 6 5D (in), 7 6D (in), 8 7D (in), 9 8D (in), 11 LE (in), 12 8Q (out), 13 7Q (out), 14 6Q (out), 15 5Q (out), 16 4Q (out), 17 3Q (out), 18 2Q (out), 19 1Q (out)
part B pins: 10 GND (power), 20 VCC (power)

## SN74HC574 Type-1
designator U?, comment SN74HC574
Octal Edge-Triggered D-Type Flip-Flops With 3-State Outputs
footprint PDIP20
footprint SOIC20
part A pins: 2 1D (in), 19 1Q (out)
part B pins: 3 2D (in), 18 2Q (out)
part C pins: 4 3D (in), 17 3Q (out)
part D pins: 5 4D (in), 16 4Q (out)
part E pins: 6 5D (in), 15 5Q (out)
part F pins: 7 6D (in), 14 6Q (out)
part G pins: 8 7D (in), 13 7Q (out)
part H pins: 9 8D (in), 12 8Q (out)
part I pins: 1 ~{OE} (in), 11 CLK (in)
part J pins: 10 GND (power), 20 VCC (power)
part A text: OE
part B text: OE
part C text: OE
part D text: OE
part E text: OE
part F text: OE
part G text: OE
part H text: OE
part I text: OE

## SN74HC574 Type-2
designator U?, comment SN74HC574
Octal Edge-Triggered D-Type Flip-Flops With 3-State Outputs
footprint PDIP20
footprint SOIC20
part A pins: 1 ~{OE} (in), 2 1D (in), 3 2D (in), 4 3D (in), 5 4D (in), 6 5D (in), 7 6D (in), 8 7D (in), 9 8D (in), 11 CLK (in), 12 8Q (out), 13 7Q (out), 14 6Q (out), 15 5Q (out), 16 4Q (out), 17 3Q (out), 18 2Q (out), 19 1Q (out)
part B pins: 10 GND (power), 20 VCC (power)

## SN74HC590A
designator U?
8-Bit Binary Counters with 3-State Output Registers
footprint PDIP16
footprint SOIC16
part A pins: 1 QB (out), 2 QC (out), 3 QD (out), 4 QE (out), 5 QF (out), 6 QG (out), 7 QH (out), 9 ~{RCO} (out), 10 ~{CCLR} (in), 11 CCLK (in), 12 ~{CCKEN} (in), 13 RCLK (in), 14 ~{OE} (in), 15 QA (out)
part B pins: 8 GND (power), 16 VCC (power)

## SN74HC595
designator U?
8-Bit Shift Registers with 3-State Output Registers
footprint PDIP16
footprint SOIC16
footprint TSSOP16
part A pins: 1 QB (out), 2 QC (out), 3 QD (out), 4 QE (out), 5 QF (out), 6 QG (out), 7 QH (out), 9 QH' (out), 10 ~{SRCLR} (in), 11 SRCLK (in), 12 RCLK (in), 13 ~{OE} (in), 14 SER (in), 15 QA (out)
part B pins: 8 GND (power), 16 VCC (power)

## SN74HC645 Type-1
designator U?, comment SN74HC645
Octal Bus Transceivers with 3-State Outputs
footprint PDIP20
footprint SOIC20
part A pins: 2 A1 (io), 18 B1 (io)
part B pins: 3 A2 (io), 17 B2 (io)
part C pins: 4 A3 (io), 16 B3 (io)
part D pins: 5 A4 (io), 15 B4 (io)
part E pins: 6 A5 (io), 14 B5 (io)
part F pins: 7 A6 (io), 13 B6 (io)
part G pins: 8 A7 (io), 12 B7 (io)
part H pins: 9 A8 (io), 11 B8 (io)
part I pins: 1 DIR (in), 19 ~{OE} (in)
part J pins: 10 GND (power), 20 VCC (power)
part I text: OE

## SN74HC645 Type-2
designator U?, comment SN74HC645
Octal Bus Transceivers with 3-State Outputs
footprint PDIP20
footprint SOIC20
part A pins: 1 DIR (in), 2 A1 (io), 3 A2 (io), 4 A3 (io), 5 A4 (io), 6 A5 (io), 7 A6 (io), 8 A7 (io), 9 A8 (io), 11 B8 (io), 12 B7 (io), 13 B6 (io), 14 B5 (io), 15 B4 (io), 16 B3 (io), 17 B2 (io), 18 B1 (io), 19 ~{OE} (in)
part B pins: 10 GND (power), 20 VCC (power)

## SN74HC688
designator U?
8-Bit Identity Comparators
footprint PDIP20
footprint SOIC20
part A pins: 1 ~{OE} (in), 2 P0 (in), 3 Q0 (in), 4 P1 (in), 5 Q1 (in), 6 P2 (in), 7 Q2 (in), 8 P3 (in), 9 Q3 (in), 11 P4 (in), 12 Q4 (in), 13 P5 (in), 14 Q5 (in), 15 P6 (in), 16 Q6 (in), 17 P7 (in), 18 Q7 (in), 19 ~{P=Q} (out)
part B pins: 10 GND (power), 20 VCC (power)

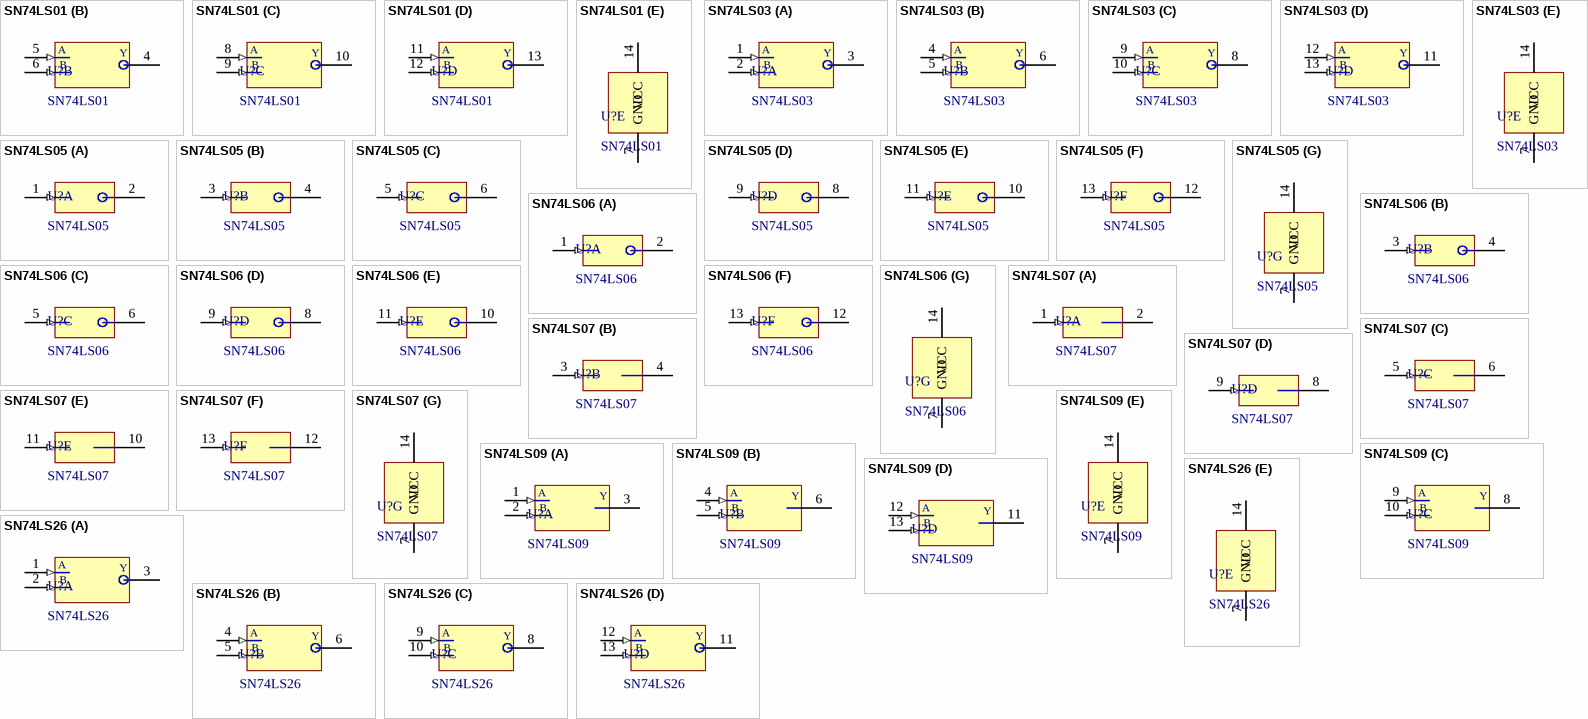
[diagram p7: symbols SN74LS01 to SN74LS26]

## SN74LS01
designator U?
Quadruple 2-Input Positive-NAND Gates with Open-Collector Outputs
footprint CDIP14
part A pins: 1 Y (oc), 2 A (in), 3 B (in)
part B pins: 4 Y (oc), 5 A (in), 6 B (in)
part C pins: 8 A (in), 9 B (in), 10 Y (oc)
part D pins: 11 A (in), 12 B (in), 13 Y (oc)
part E pins: 7 GND (power), 14 VCC (power)

## SN74LS03
designator U?
Quadruple 2-Input Positive-NAND Gates with Open-Collector Outputs
footprint SOIC14
part A pins: 1 A (in), 2 B (in), 3 Y (oc)
part B pins: 4 A (in), 5 B (in), 6 Y (oc)
part C pins: 8 Y (oc), 9 A (in), 10 B (in)
part D pins: 11 Y (oc), 12 A (in), 13 B (in)
part E pins: 7 GND (power), 14 VCC (power)

## SN74LS05
designator U?
Hex Inverters with Open-Collectors Outputs
footprint CDIP14
footprint SOIC14
part A pins: 1 A (in), 2 Y (oc)
part B pins: 3 A (in), 4 Y (oc)
part C pins: 5 A (in), 6 Y (oc)
part D pins: 8 Y (oc), 9 A (in)
part E pins: 10 Y (oc), 11 A (in)
part F pins: 12 Y (oc), 13 A (in)
part G pins: 7 GND (power), 14 VCC (power)

## SN74LS06
designator U?
Hex Inverter Buffers and Drivers with Open-Collector High-Voltage Outputs
footprint CDIP14
footprint SOIC14
part A pins: 1 A (in), 2 Y (oc)
part B pins: 3 A (in), 4 Y (oc)
part C pins: 5 A (in), 6 Y (oc)
part D pins: 8 Y (oc), 9 A (in)
part E pins: 10 Y (oc), 11 A (in)
part F pins: 12 Y (oc), 13 A (in)
part G pins: 7 GND (power), 14 VCC (power)

## SN74LS07
designator U?
Hex Buffers and Drivers with Open-Collector High-Voltage Outputs
footprint CDIP14
footprint SOIC14
part A pins: 1 A (in), 2 Y (oc)
part B pins: 3 A (in), 4 Y (oc)
part C pins: 5 A (in), 6 Y (oc)
part D pins: 8 Y (oc), 9 A (in)
part E pins: 10 Y (oc), 11 A (in)
part F pins: 12 Y (oc), 13 A (in)
part G pins: 7 GND (power), 14 VCC (power)

## SN74LS09
designator U?
Quadruple 2-Input Positive-AND Gates Open Collector Outputs
footprint CDIP14
footprint SOIC14
footprint TSSOP14
part A pins: 1 A (in), 2 B (in), 3 Y (oc)
part B pins: 4 A (in), 5 B (in), 6 Y (oc)
part C pins: 8 Y (oc), 9 A (in), 10 B (in)
part D pins: 11 Y (oc), 12 A (in), 13 B (in)
part E pins: 7 GND (power), 14 VCC (power)

## SN74LS26
designator U?
Quadruple 2-Input High-Voltage Positive-NAND Gates
footprint CDIP14
footprint SOIC14
part A pins: 1 A (in), 2 B (in), 3 Y (oc)
part B pins: 4 A (in), 5 B (in), 6 Y (oc)
part C pins: 8 Y (oc), 9 A (in), 10 B (in)
part D pins: 11 Y (oc), 12 A (in), 13 B (in)
part E pins: 7 GND (power), 14 VCC (power)

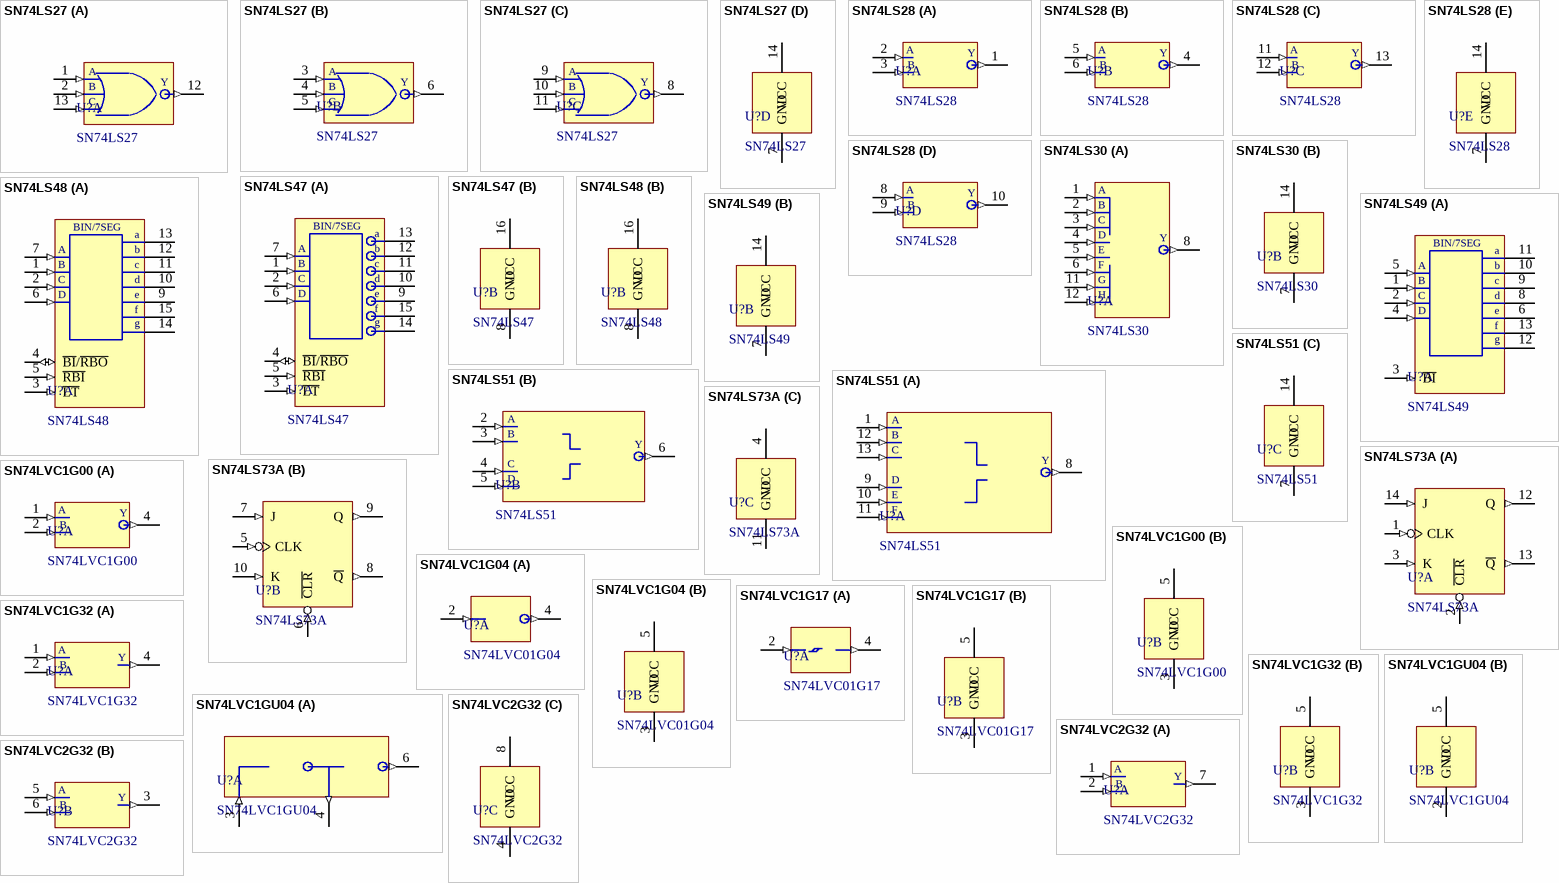
[diagram p8: symbols SN74LS27 to SN74LVC2G32]

## SN74LS27
designator U?
Triple 3-Input Positive NOR Gates
footprint CDIP14
footprint SOIC14
part A pins: 1 A (in), 2 B (in), 12 Y (out), 13 C (in)
part B pins: 3 A (in), 4 B (in), 5 C (in), 6 Y (out)
part C pins: 8 Y (out), 9 A (in), 10 B (in), 11 C (in)
part D pins: 7 GND (power), 14 VCC (power)

## SN74LS28
designator U?
Quadruple 2-Input Positive-NOR Buffers
footprint CDIP14
part A pins: 1 Y (out), 2 A (in), 3 B (in)
part B pins: 4 Y (out), 5 A (in), 6 B (in)
part C pins: 11 A (in), 12 B (in), 13 Y (out)
part D pins: 8 A (in), 9 B (in), 10 Y (out)
part E pins: 7 GND (power), 14 VCC (power)

## SN74LS30
designator U?
8-Input Positive-NAND Gates
footprint CDIP14
footprint SOIC14
part A pins: 1 A (in), 2 B (in), 3 C (in), 4 D (in), 5 E (in), 6 F (in), 8 Y (out), 11 G (in), 12 H (in)
part B pins: 7 GND (power), 14 VCC (power)

## SN74LS47
designator U?
BCD to Seven Segment Decoders/Drivers
footprint PDIP16
footprint SOIC16
part A pins: 1 B_IN (in), 2 C_IN (in), 3 ~{LT} (in), 4 ~{BI}/~{RBO} (io), 5 ~{RBI} (in), 6 D_IN (in), 7 A_IN (in), 9 E_OUT (oc), 10 D_OUT (oc), 11 C_OUT (oc), 12 B_OUT (oc), 13 A_OUT (oc), 14 G_OUT (oc), 15 F_OUT (oc)
part B pins: 8 GND (power), 16 VCC (power)
part A text: BIN/7SEG; a; A; b; B; c; C; d; D; e; f; g

## SN74LS48
designator U?
BCD to Seven Segment Decoders/Drivers
footprint PDIP16
footprint SOIC16
part A pins: 1 B_IN (in), 2 C_IN (in), 3 ~{LT} (in), 4 ~{BI}/~{RBO} (io), 5 ~{RBI} (in), 6 D_IN (in), 7 A_IN (in), 9 E_OUT (oc), 10 D_OUT (oc), 11 C_OUT (oc), 12 B_OUT (oc), 13 A_OUT (oc), 14 G_OUT (oc), 15 F_OUT (oc)
part B pins: 8 GND (power), 16 VCC (power)
part A text: BIN/7SEG; a; A; b; B; c; C; d; D; e; f; g

## SN74LS49
designator U?
BCD to Seven Segment Decoders/Drivers
footprint CDIP14
footprint SOIC14
part A pins: 1 B_IN (in), 2 C_IN (in), 3 ~{BI} (in), 4 D_IN (in), 5 A_IN (in), 6 E_OUT (oc), 8 D_OUT (oc), 9 C_OUT (oc), 10 B_OUT (oc), 11 A_OUT (oc), 12 G_OUT (oc), 13 F_OUT (oc)
part B pins: 7 GND (power), 14 VCC (power)
part A text: BIN/7SEG; a; A; b; B; c; C; d; D; e; f; g

## SN74LS51
designator U?
AND-OR-INVERTER Gate
footprint CDIP14
footprint SOIC14
footprint TSSOP14
part A pins: 1 A (in), 8 Y (out), 9 D (in), 10 E (in), 11 F (in), 12 B (in), 13 C (in)
part B pins: 2 A (in), 3 B (in), 4 C (in), 5 D (in), 6 Y (out)
part C pins: 7 GND (power), 14 VCC (power)

## SN74LS73A
designator U?
Dual J-K Flip-Flops with Clear
footprint CDIP14
footprint SOIC14
footprint TSSOP14
part A pins: 1 CLK (in), 2 ~{CLR} (in), 3 K (in), 12 Q (out), 13 ~{Q} (out), 14 J (in)
part B pins: 5 CLK (in), 6 ~{CLR} (in), 7 J (in), 8 ~{Q} (out), 9 Q (out), 10 K (in)
part C pins: 4 VCC (power), 11 GND (power)

## SN74LVC1G00
designator U?
Single 2-Input Positive-NAND Gate
footprint SOT23-5
part A pins: 1 A (in), 2 B (in), 4 Y (out)
part B pins: 3 GND (power), 5 VCC (power)

## SN74LVC1G04
designator U?, comment SN74LVC01G04
Single Inverter Gate
footprint SOT23-5
part A pins: 2 A (in), 4 Y (out)
part B pins: 3 GND (power), 5 VCC (power)

## SN74LVC1G17
designator U?, comment SN74LVC01G17
Single Schmitt-Trigger Buffer
footprint SOT23-5
part A pins: 2 A (in), 4 Y (out)
part B pins: 3 GND (power), 5 VCC (power)

## SN74LVC1G32
designator U?
Single 2-Input OR Gate
footprint SOT23-5
part A pins: 1 A (in), 2 B (in), 4 Y (out)
part B pins: 3 GND (power), 5 VCC (power)

## SN74LVC1GU04
designator U?
Crystal Oscillator Driver
footprint SOT23-6
part A pins: 3 X1 (in), 4 X2 (out), 6 Y (out)
part B pins: 2 GND (power), 5 VCC (power)

## SN74LVC2G32
designator U?
Dual 2-Input OR Gate; Datasheet: http://www.ti.com/lit/ds/symlink/sn74lvc2g32-ep.pdf
footprint SSOP-8
part A pins: 1 A (in), 2 B (in), 7 Y (out)
part B pins: 3 Y (out), 5 A (in), 6 B (in)
part C pins: 4 GND (power), 8 VCC (power)